# Altium schematic symbol library IEEEBOT_SCHLIB.SchLib: 30 symbols (part 2 of 2)
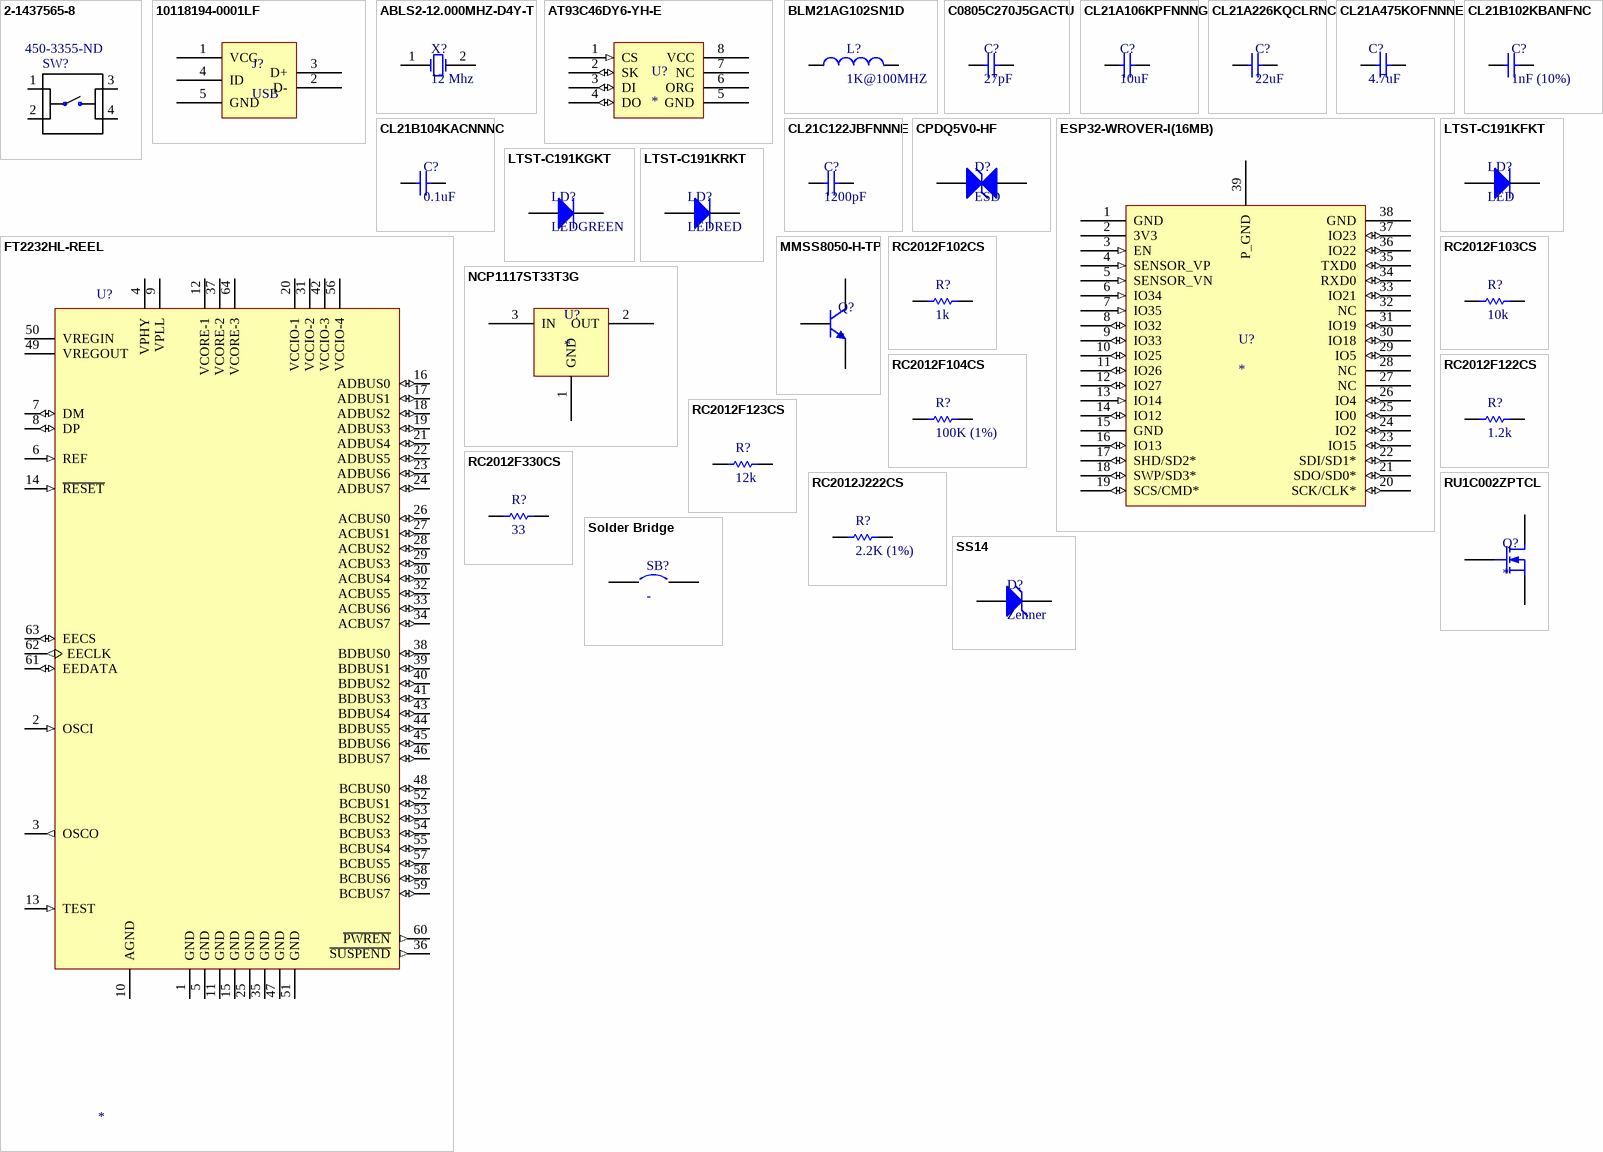
[diagram p1: symbols 2-1437565-8 to SS14]

## RC2012F123CS
designator R?, comment 12k
Res Thick Film 0805 12K Ohm 1% 0.125W(1/8W) ±100ppm/C Molded SMD T/R; Manufacturer: Samsung; Manufacturer Part Number: RC2012F123CS; Resistance: 12kR; Max Power Dissipation: 125mW; Temperature Coefficient: 100ppm/°C; Voltage Rating (DC): 150V; Supplier 1: Digi-Key; RoHS: Yes; Stock 1: 4; Pricing 1: 1 = 0,10000 (USD); Case/Package: 0805; Case Code (Metric): 2012; Case Code (Imperial): 0805; Contact Plating: Tin; Min Operating Temperature: -55°C; Max Operating Temperature: 155°C; Tolerance: 1%; Packaging: Tape and Reel; Composition: Thick Film; Package Quantity: 1; Number of Terminations: 2; Military Standard: Not; Features: Moisture Resistant; Length: 0.079inch; Height: 0.024inch; Width: 0.049inch; Depth: 1.25mm; Radiation Hardening: No; Lead Free: Lead Free; ComponentLink1URL: http://components.arrow.com/part/dataview/53385205S9998783N4139?src-supplier=Arrow; ComponentLink1Description: http://components.arrow.com/part/dataview/53385205S9998783N4139?src-supplier=Arrow; ComponentLink2URL: http://components.arrow.com/part/dataview/0323_06012576?src-supplier=Arrow+Europe; ComponentLink2Description: http://components.arrow.com/part/dataview/0323_06012576?src-supplier=Arrow+Europe; ComponentLink3URL: http://www.samsungsem.com/kr/support/library/product-catalog/__icsFiles/afieldfile/2015/09/22/CHIP_RESISTOR_2015.pdf?src-supplier=Digi-Key; ComponentLink3Description: http://www.samsungsem.com/kr/support/library/product-catalog/__icsFiles/afieldfile/2015/09/22/CHIP_RESISTOR_2015.pdf?src-supplier=Digi-Key; ComponentLink4URL: http://www.samsungsem.com/servlet/FileDownload?type=spec&file=RC2012F111CS.pdf&src-supplier=Avnet; ComponentLink4Description: http://www.samsungsem.com/servlet/FileDownload?type=spec&file=RC2012F111CS.pdf&src-supplier=Avnet; Supplier Part Number 1: 1276-5337-1-ND
pins: 1, 2

## RC2012F330CS
designator R?, comment 33
RES SMD 33 OHM 1% 1/8W 0805; Manufacturer: Samsung; Manufacturer Part Number: RC2012F330CS; Resistance: 33R; Max Power Dissipation: 125mW; Temperature Coefficient: 100ppm/°C; Voltage Rating (DC): 150V; Supplier 1: Digi-Key; RoHS: Yes; Stock 1: 153502; Pricing 1: 1 = 0,10000, 10 = 0,05600, 100 = 0,02290, 1000 = 0,01030, 2500 = 0,00894 (USD); Case/Package: 0805; Case Code (Metric): 2012; Case Code (Imperial): 0805; Contact Plating: Tin; Min Operating Temperature: -55°C; Max Operating Temperature: 155°C; Tolerance: 1%; Packaging: Tape and Reel; Composition: Thick Film; Number of Terminations: 2; Military Standard: Not; Features: Moisture Resistant; Length: 0.079inch; Height: 0.024inch; Width: 0.049inch; Depth: 1.25mm; Radiation Hardening: No; Lead Free: Lead Free; ComponentLink1URL: https://datasheet.ciiva.com/26154/chip-resistor-150112-1-26154174.pdf?src-supplier=Digi-Key; ComponentLink1Description: https://datasheet.ciiva.com/26154/chip-resistor-150112-1-26154174.pdf?src-supplier=Digi-Key; ComponentLink2URL: https://datasheet.ciiva.com/26154/chip-resistor-150112-1-26154150.pdf?src-supplier=Digi-Key; ComponentLink2Description: https://datasheet.ciiva.com/26154/chip-resistor-150112-1-26154150.pdf?src-supplier=Digi-Key; ComponentLink3URL: https://datasheet.ciiva.com/26154/chip-resistor-150112-1-26154140.pdf?src-supplier=Digi-Key; ComponentLink3Description: https://datasheet.ciiva.com/26154/chip-resistor-150112-1-26154140.pdf?src-supplier=Digi-Key; Supplier Part Number 1: 1276-5201-1-ND
pins: 1, 2

## RC2012J222CS
designator R?, comment 2.2K (1%)
Res Thick Film 0805 2.2K Ohm 5% 0.125W(1/8W) ±100ppm/C Molded SMD T/R; Manufacturer: Samsung; Manufacturer Part Number: RC2012J222CS; Resistance: 2.2kR; Max Power Dissipation: 125mW; Temperature Coefficient: 100ppm/°C; Voltage Rating (DC): 150V; Supplier 1: Digi-Key; RoHS: Yes; Stock 1: 78131; Pricing 1: 1 = 0,10000, 10 = 0,04900, 100 = 0,02000, 1000 = 0,00899, 2500 = 0,00780 (USD); Case/Package: 0805; Case Code (Metric): 2012; Case Code (Imperial): 0805; Contact Plating: Tin; Min Operating Temperature: -55°C; Max Operating Temperature: 155°C; Tolerance: 5%; Packaging: Tape and Reel; Composition: Thick Film; Number of Terminations: 2; Military Standard: Not; Features: Moisture Resistant; Length: 2mm; Height: 0.024inch; Width: 0.049inch; Depth: 1.25mm; Radiation Hardening: No; Lead Free: Lead Free; ComponentLink1URL: https://datasheet.ciiva.com/15196/getdatasheetpartid-714716-15196269.pdf?src-supplier=Verical; ComponentLink1Description: https://datasheet.ciiva.com/15196/getdatasheetpartid-714716-15196269.pdf?src-supplier=Verical; ComponentLink2URL: https://datasheet.ciiva.com/26157/chip-resistor-150112-1-26157477.pdf?src-supplier=Digi-Key; ComponentLink2Description: https://datasheet.ciiva.com/26157/chip-resistor-150112-1-26157477.pdf?src-supplier=Digi-Key; ComponentLink3URL: https://datasheet.ciiva.com/26157/chip-resistor-150112-1-26157487.pdf?src-supplier=Digi-Key; ComponentLink3Description: https://datasheet.ciiva.com/26157/chip-resistor-150112-1-26157487.pdf?src-supplier=Digi-Key; ComponentLink4URL: https://datasheet.ciiva.com/26157/chip-resistor-150112-1-26157503.pdf?src-supplier=Digi-Key; ComponentLink4Description: https://datasheet.ciiva.com/26157/chip-resistor-150112-1-26157503.pdf?src-supplier=Digi-Key; Supplier Part Number 1: 1276-5537-1-ND
pins: 1, 2

## RU1C002ZPTCL
designator Q?
RU1C002ZP Series 20 V 200 mA 1.2 Ohm Silicon SMT P-Channel Mosfet - UMT-3F; Manufacturer: Rohm; Manufacturer Part Number: RU1C002ZPTCL; Drain to Source Voltage (Vdss): 20V; Continuous Drain Current (ID): 200mA; Rds On Max: 1.2R; Input Capacitance: 115pF; Max Power Dissipation: 150mW; Supplier 1: Digi-Key; Stock 1: 5358; Pricing 1: 1 = 0,24000, 10 = 0,19900, 100 = 0,10570, 500 = 0,06952, 1000 = 0,04728 (USD); Mount: Surface Mount; Case/Package: SC; Number of Pins: 85; Packaging: Tape and Reel; Lead Free: Lead Free; ComponentLink1URL: http://www.mouser.com/ds/2/348/ru1c002zptcl-e-1018306.pdf?src-supplier=Mouser; ComponentLink1Description: http://www.mouser.com/ds/2/348/ru1c002zptcl-e-1018306.pdf?src-supplier=Mouser; ComponentLink2URL: http://www.farnell.com/datasheets/2198004.pdf?src-supplier=Farnell; ComponentLink2Description: http://www.farnell.com/datasheets/2198004.pdf?src-supplier=Farnell; ComponentLink3URL: http://rohmfs.rohm.com/en/products/databook/datasheet/discrete/transistor/mosfet/ru1c002zp.pdf?src-supplier=Avnet; ComponentLink3Description: http://rohmfs.rohm.com/en/products/databook/datasheet/discrete/transistor/mosfet/ru1c002zp.pdf?src-supplier=Avnet; ComponentLink4URL: http://rohmfs.rohm.com/en/techdata_basic/transistor/taping/UMT3_T106_taping.pdf?src-supplier=Digi-Key; ComponentLink4Description: http://rohmfs.rohm.com/en/techdata_basic/transistor/taping/UMT3_T106_taping.pdf?src-supplier=Digi-Key; ComponentLink5URL: http://www.rohm.com/web/global/datasheet/RU1C002ZP/ru1c002zptcl-e?src-supplier=Digi-Key; ComponentLink5Description: http://www.rohm.com/web/global/datasheet/RU1C002ZP/ru1c002zptcl-e?src-supplier=Digi-Key; ComponentLink6URL: http://datasheet.octopart.com/RU1C002ZPTCL-Rohm-datasheet-49196695.pdf?src-supplier=Newark; ComponentLink6Description: http://datasheet.octopart.com/RU1C002ZPTCL-Rohm-datasheet-49196695.pdf?src-supplier=Newark; ComponentLink7URL: http://datasheet.octopart.com/RU1C002ZPTCL-Rohm-datasheet-79607677.pdf?src-supplier=Future+Electronics; ComponentLink7Description: http://datasheet.octopart.com/RU1C002ZPTCL-Rohm-datasheet-79607677.pdf?src-supplier=Future+Electronics; Supplier Part Number 1: RU1C002ZPTCLCT-ND
pins: 1 D, 2 G, 3 S

## Solder Bridge
designator SB?, comment -
footprint Solder Bridge
pins: 1, 2

## SS14
designator D?, comment Zenner
DIODE SCHOTTKY 40V 1A SMA; Manufacturer: ON Semiconductor / Fairchild; Manufacturer Part Number: SS14; Forward Voltage: 500mV; Peak Non-Repetitive Surge Current: 40A; Element Configuration: Single; Peak Reverse Current: 200uA; Number of Elements: 1; Max Power Dissipation: 1.1W; Polarity: Standard; Supplier 1: Digi-Key; RoHS: Yes; Stock 1: 183262; Pricing 1: 1 = 0,43000, 10 = 0,32500, 100 = 0,20270, 500 = 0,13872, 1000 = 0,10670 (USD); Mount: Surface Mount; Case/Package: SMA; Number of Pins: 2; Weight: 0.003739oz; Number of Terminals: 2; Min Operating Temperature: -65°C; Max Operating Temperature: 125°C; Packaging: Tape and Reel; Package Quantity: 7500; Forward Current: 1A; Max Repetitive Reverse Voltage (Vrrm): 40V; Max Forward Surge Current (Ifsm): 40A; Average Rectified Current: 1A; Termination: SMD/SMT; Power Dissipation: 1.1W; Voltage Rating (DC): 40V; Current Rating: 1A; Output Current: 1A; Current: 1A; Voltage: 40V; Max Reverse Voltage (DC): 40V; Length: 4.75mm; Height: 2.2mm; Width: 2.95mm; Radiation Hardening: No; REACH SVHC: No SVHC; Lead Free: Lead Free; ComponentLink1URL: https://datasheet.ciiva.com/34301/1089027-34301973.pdf?src-supplier=Jameco; ComponentLink1Description: https://datasheet.ciiva.com/34301/1089027-34301973.pdf?src-supplier=Jameco; ComponentLink2URL: https://datasheet.ciiva.com/4713/ss14-197224-4713938.pdf?src-supplier=Mouser; ComponentLink2Description: https://datasheet.ciiva.com/4713/ss14-197224-4713938.pdf?src-supplier=Mouser; ComponentLink3URL: https://datasheet.ciiva.com/16744/ss14-16744879.pdf?src-supplier=Future+Electronics; ComponentLink3Description: https://datasheet.ciiva.com/16744/ss14-16744879.pdf?src-supplier=Future+Electronics; ComponentLink4URL: https://datasheet.ciiva.com/8303/ss19-8303766.pdf?src-supplier=Avnet; ComponentLink4Description: https://datasheet.ciiva.com/8303/ss19-8303766.pdf?src-supplier=Avnet; ComponentLink5URL: https://datasheet.ciiva.com/910/ss12-910695.pdf?src-supplier=Digi-Key; ComponentLink5Description: https://datasheet.ciiva.com/910/ss12-910695.pdf?src-supplier=Digi-Key; ComponentLink6URL: https://datasheet.ciiva.com/7965/1766303-7965241.pdf?src-supplier=Element14; ComponentLink6Description: https://datasheet.ciiva.com/7965/1766303-7965241.pdf?src-supplier=Element14; ComponentLink7URL: https://datasheet.ciiva.com/910/ss12-910696.pdf?src-supplier=Digi-Key; ComponentLink7Description: https://datasheet.ciiva.com/910/ss12-910696.pdf?src-supplier=Digi-Key; ComponentLink8URL: https://datasheet.ciiva.com/25951/ss19-25951496.pdf?src-supplier=Avnet+Europe; ComponentLink8Description: https://datasheet.ciiva.com/25951/ss19-25951496.pdf?src-supplier=Avnet+Europe; ComponentLink9URL: https://datasheet.ciiva.com/910/ss12-910697.pdf?src-supplier=Digi-Key; ComponentLink9Description: https://datasheet.ciiva.com/910/ss12-910697.pdf?src-supplier=Digi-Key; ComponentLink10URL: https://datasheet.ciiva.com/22651/1880990-22651980.pdf?src-supplier=Element14; ComponentLink10Description: https://datasheet.ciiva.com/22651/1880990-22651980.pdf?src-supplier=Element14; Supplier Part Number 1: SS14CT-ND
pins: 1 A, 2 K